# Altium integrated library CA-C03.IntLib: 1 symbol
Pins are listed as number, name and electrical type; pins without a type are passive.

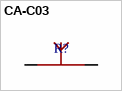
[diagram p0: symbol CA-C03]

## CA-C03
designator R?
footprint CA-C03
pins: 1, 2